# EAGLE library part 0484090003 (library 0484090003)
Conn USB 3.0 Type A F 18 POS 2mm/2.5mm Solder ST Thru-Hole 18 Terminal 2 Port Tray Source: Datasheet <https://componentsearchengine.com/Datasheets/1/0484090003.pdf>
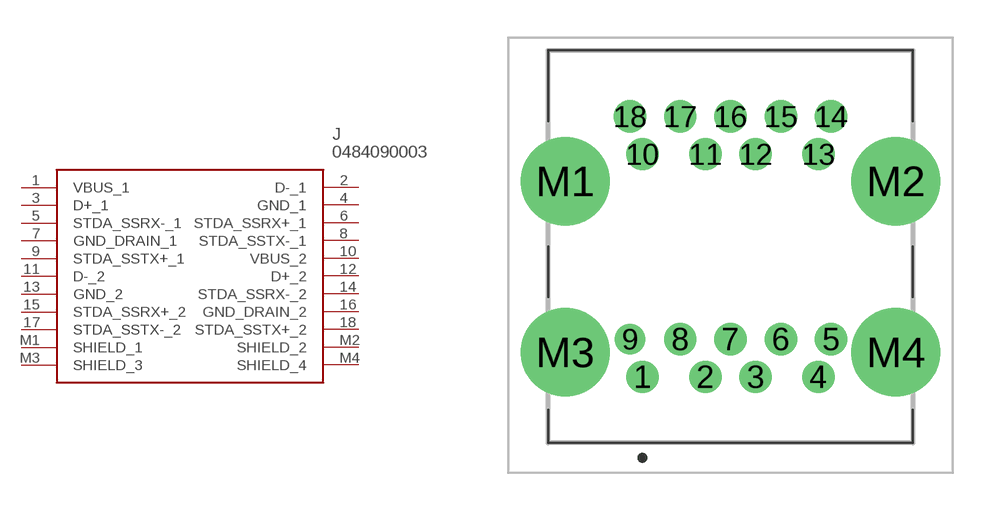
[diagram p0: symbol with the pads of 0484090003; footprint 0484090003]

Designator prefix J

## 0484090003 (Description: Conn USB 3.0 Type A F 18 POS 2mm/2.5mm Solder ST Thru-Hole 18 Terminal 2 Port Tray; Height: 14.88mm; Manufacturer_Name: Molex; Manufacturer_Part_Number: 0484090003; Mouser_Part_Number: N/A; Mouser_Price-Stock: https://www.mouser.com/Search/Refine.aspx?Keyword=N%2FA)  [0484090003]
1  VBUS_1
2  D-_1
3  D+_1
4  GND_1
5  STDA_SSRX-_1
6  STDA_SSRX+_1
7  GND_DRAIN_1
8  STDA_SSTX-_1
9  STDA_SSTX+_1
10  VBUS_2
11  D-_2
12  D+_2
13  GND_2
14  STDA_SSRX-_2
15  STDA_SSRX+_2
16  GND_DRAIN_2
17  STDA_SSTX-_2
18  STDA_SSTX+_2
M1  SHIELD_1
M2  SHIELD_2
M3  SHIELD_3
M4  SHIELD_4

## Footprint 0484090003 (pad centres in mm)
0484090003-1
drill 0.75 pad 1.286: 1 0,0; 2 2.5,0; 3 4.5,0; 4 7,0; 5 7.5,1.5; 6 5.5,1.5; 7 3.5,1.5; 8 1.5,1.5; 10 0,8.86; 11 2.5,8.86; 12 4.5,8.86; 13 7,8.86; 14 7.5,10.36; 15 5.5,10.36; 16 3.5,10.36; 17 1.5,10.36; 18 -0.5,10.36
drill 0.7 pad 1.2: 9 -0.5,1.5
drill 2.35 pad 3.525: M1 -3.07,7.78; M2 10.07,7.78; M3 -3.07,0.98; M4 10.07,0.98